# Altium schematic symbol library tuya_modules.SchLib: 1 symbol
Pins are listed as number, name and electrical type; pins without a type are passive.

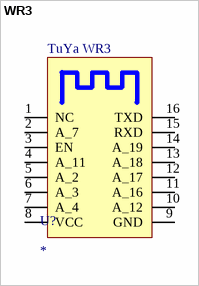
[diagram p0: symbol WR3]

## WR3
designator U?
涂鸦蓝牙&WIFI模组 WR3
footprint TuYa_module_WR3 (BLE&WIFI模块)
pins: 1 NC, 2 A_7, 3 EN, 4 A_11, 5 A_2, 6 A_3, 7 A_4, 8 VCC (power), 9 GND, 10 A_12, 11 A_16, 12 A_17, 13 A_18, 14 A_19, 15 RXD, 16 TXD
text: TuYa WR3